# EAGLE library part FFC_9_200529-0090 (library dpx-con-CUSTOM)
FFC & FPC Connectors 1.0 FPC ZIF SNG BTM CONT 9Ckt RA FS19 Source: Datasheet <https://componentsearchengine.com/Datasheets/1/200529-0090.pdf>
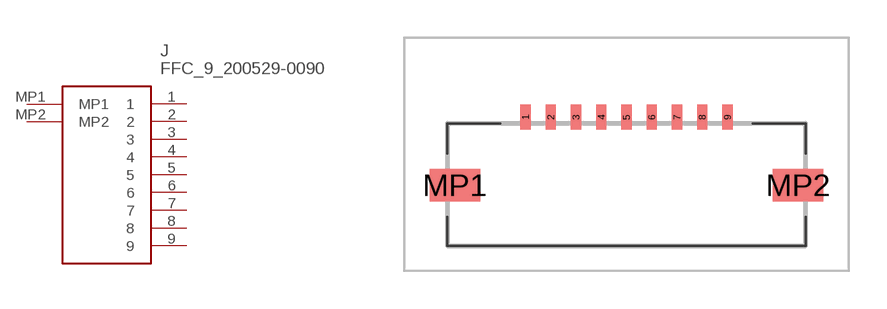
[diagram p10: symbol with the pads of 2005290090; footprint 2005290090]

Designator prefix J

## FFC_9_200529-0090 (DESCRIPTION: FFC & FPC Connectors 1.0 FPC ZIF SNG BTM CONT 9Ckt RA FS19; HEIGHT: 2.1mm; MANUFACTURER_NAME: Molex; MANUFACTURER_PART_NUMBER: 200529-0090; MOUSER_PART_NUMBER: 538-200529-0090; MOUSER_PRICE-STOCK: https://www.mouser.co.uk/ProductDetail/Molex/200529-0090?qs=IvjI65BR3TX3TGL1l1P4Ww%3D%3D)  [2005290090]
1  1
2  2
3  3
4  4
5  5
6  6
7  7
8  8
9  9
MP1  MP1
MP2  MP2

## Footprint 2005290090 (pad centres in mm)
200529-0090-2
smd 0.4 x 1: 1 -4,2.45; 2 -3,2.45; 3 -2,2.45; 4 -1,2.45; 5 0,2.45; 6 1,2.45; 7 2,2.45; 8 3,2.45; 9 4,2.45
smd 2 x 1.3: MP1 -6.8,-0.25; MP2 6.8,-0.25